# EAGLE library part 2X5 (library J-HDR2.54mm)
2 X 5 POS HEADER
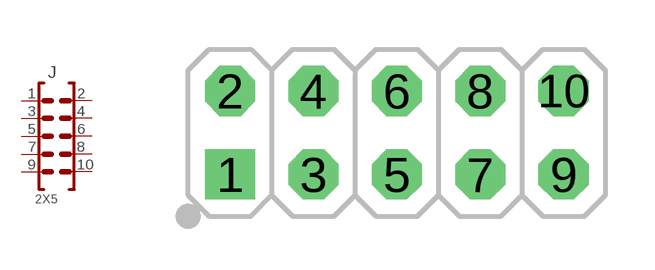
[diagram p13: symbol with the pads of 2X5; footprint 2X5]

Designator prefix J

## 2X5  [2X5]
1  1  pas
2  2  pas
3  3  pas
4  4  pas
5  5  pas
6  6  pas
7  7  pas
8  8  pas
9  9  pas
10  10  pas

## Footprint 2X5 (pad centres in mm)
drill 1.016 square: 1 0,0
drill 1.016 octagon: 2 0,2.54; 3 2.54,0; 4 2.54,2.54; 5 5.08,0; 6 5.08,2.54; 7 7.62,0; 8 7.62,2.54; 9 10.16,0; 10 10.16,2.54